# EAGLE library part SI8901 (library stutz-eagle)
SILICON LABS OPTO ISOLATED ADC I2C SI8901
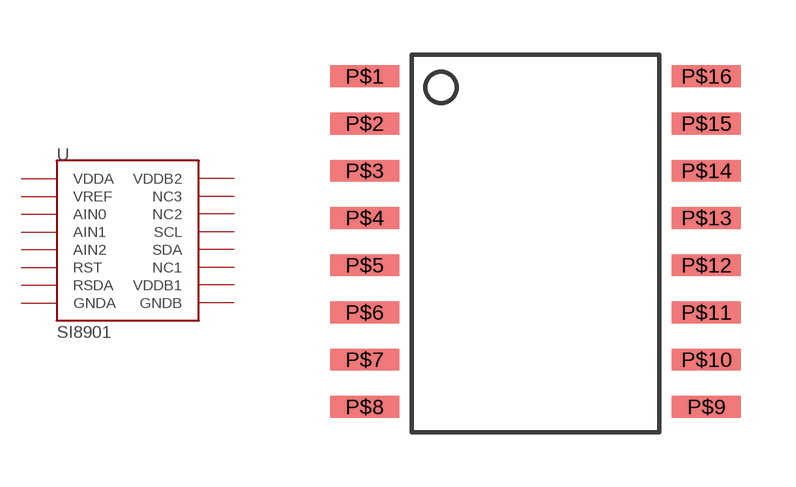
[diagram p2: symbol with the pads of SOC-WIDE-16PIN; footprint SOC-WIDE-16PIN]

Designator prefix -

## SI8901  [SOC-WIDE-16PIN]
P$1  VDDA  pwr
P$2  VREF  in
P$3  AIN0  in
P$4  AIN1  in
P$5  AIN2  in
P$6  RST  in
P$7  RSDA
P$8  GNDA  pwr
P$9  GNDB  pwr
P$10  VDDB1  pwr
P$11  NC1  nc
P$12  SDA
P$13  SCL  in
P$14  NC2  nc
P$15  NC3  nc
P$16  VDDB2  pwr

## Footprint SOC-WIDE-16PIN (pad centres in mm)
smd 1.9 x 0.6: P$1 -4.7,4.6; P$2 -4.7,3.3; P$3 -4.7,2; P$4 -4.7,0.7; P$5 -4.7,-0.6; P$6 -4.7,-1.9; P$7 -4.7,-3.2; P$8 -4.7,-4.5; P$9 4.7,-4.5; P$10 4.7,-3.2; P$11 4.7,-1.9; P$12 4.7,-0.6; P$13 4.7,0.7; P$14 4.7,2; P$15 4.7,3.3; P$16 4.7,4.6